# Altium schematic symbol library DRV8833PWPR.SchLib: 1 symbol
Pins are listed as number, name and electrical type; pins without a type are passive.

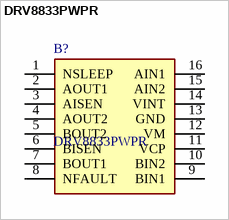
[diagram p0: symbol DRV8833PWPR]

## DRV8833PWPR
designator B?
2A Low Voltage Dual Brushed DC or Single Bipolar Stepper Motor Driver (PWM Ctrl); Manufacturer_Name: Texas Instruments; Geometry.Height: 1.2mm; Manufacturer_Part_Number: DRV8833PWPR; Mouser Part Number: 595-DRV8833PWPR; Mouser Price/Stock: https://www.mouser.co.uk/ProductDetail/Texas-Instruments/DRV8833PWPR?qs=luhu8ESwuKxT62RV9jrJTg%3D%3D; Arrow Part Number: DRV8833PWPR; Arrow Price/Stock: https://www.arrow.com/en/products/drv8833pwpr/texas-instruments?region=europe; Datasheet Link: http://www.ti.com/lit/gpn/drv8833
footprint SOP65P640X120-16N
pins: 1 NSLEEP, 2 AOUT1, 3 AISEN, 4 AOUT2, 5 BOUT2, 6 BISEN, 7 BOUT1, 8 NFAULT, 9 BIN1, 10 BIN2, 11 VCP, 12 VM, 13 GND, 14 VINT, 15 AIN2, 16 AIN1